# EAGLE library part LB-502XX (library RoboJackets-LEDs)
Variants Red (Vf=2.0V; If=20mA) LB-502VD (Common Anode) LB-502VN (Common Cathode) Orange (Vf=2.0V; If=20mA) LB-502DD (Common Anode) LB-502DN (Common Cathode) Green (Vf=2.1V; If=20mA) LB-502MD (Common Anode) LB-502MN (Common Cathode)
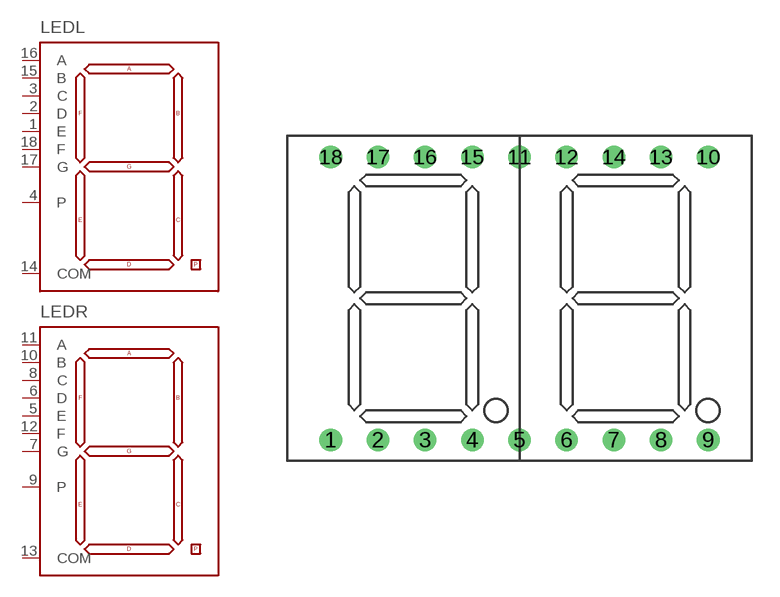
[diagram p3: symbol with the pads of LB-502XX; footprint LB-502XX]

Designator prefix LED; gates L=7SEG+1 R=7SEG+1

## LB-502XX  [LB-502XX]
1  L:E
2  L:D
3  L:C
4  L:P
5  R:E
6  R:D
7  R:G
8  R:C
9  R:P
10  R:B
11  R:A
12  R:F
13  R:COM
14  L:COM
15  L:B
16  L:A
17  L:G
18  L:F

## Footprint LB-502XX (pad centres in mm)
drill 0.711: 1 -10.16,-7.62; 2 -7.62,-7.62; 3 -5.08,-7.62; 4 -2.54,-7.62; 5 0,-7.62; 6 2.54,-7.62; 7 5.08,-7.62; 8 7.62,-7.62; 9 10.16,-7.62; 10 10.16,7.62; 11 0,7.62; 12 2.54,7.62; 13 7.62,7.62; 14 5.08,7.62; 15 -2.54,7.62; 16 -5.08,7.62; 17 -7.62,7.62; 18 -10.16,7.62